# EAGLE library part BC847BS (library joakim)
NPN/NPN general-purpose transistor pair in a very small SOT363 (SC-88) Surface-Mounted Device (SMD) plastic package. AAL Eindhoven MK
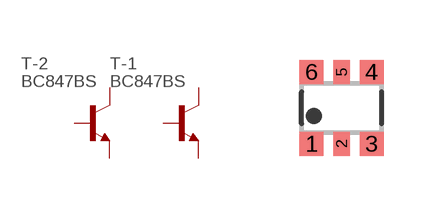
[diagram p37: symbol with the pads of SOT363J; footprint SOT363J]

Designator prefix T; gates -1=NPN -2=NPN

## BC847BS  [SOT363J]
1  -1:E  pas
2  -1:B  pas
3  -2:C  pas
4  -2:E  pas
5  -2:B  pas
6  -1:C  pas

## Footprint SOT363J (pad centres in mm)
SOT363 Plastic surface-mounted package; 6 leads JEDEC: -- IEC: -- JEITA: SC-88
smd 0.6 x 0.6: 1 -0.75,-0.9; 3 0.75,-0.9; 4 0.75,0.9; 6 -0.75,0.9
smd 0.4 x 0.6: 2 0,-0.9; 5 0,0.9